# Altium footprint library mypcb.PcbLib: 46 footprints (part 2 of 3)
Each footprint in its own frame and in the unit in brackets; x right, y up, seen from the top. Pads: shape width x height; smd on the part's side, far side on the other; paste and mask are expansions set on the pad; w line width, h text height; cw(c..) or ccw(c..) is an arc to the next point about the centre after c.
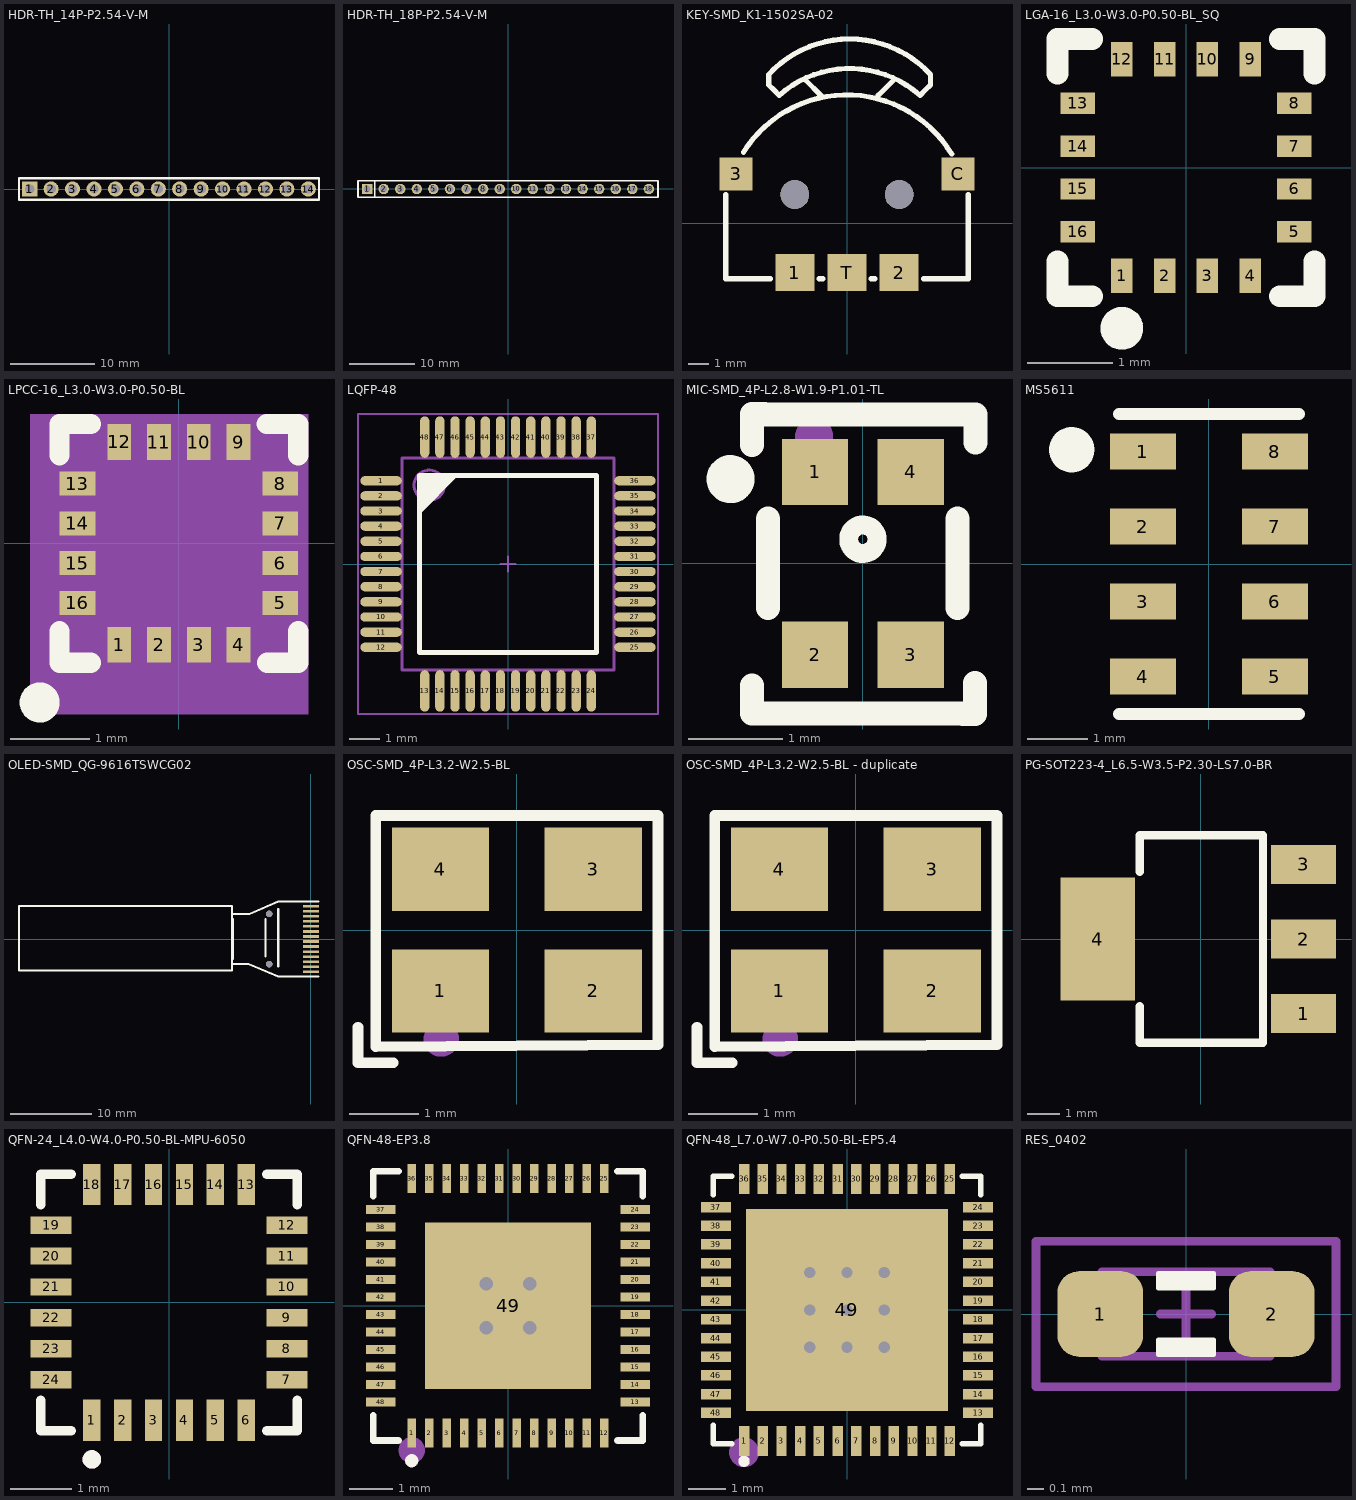
[diagram p1: the footprints below, top view; thin cyan lines are the x and y axes]

## HDR-TH_14P-P2.54-V-M [mm]
pads (14):
  rect 1.8x1.8 hole 1.1: 1(-16.51,0)
  round 1.8 hole 1.1: 2(-13.97,0) 3(-11.43,0) 4(-8.89,0) 5(-6.35,0) 6(-3.81,0) 7(-1.27,0) 8(1.27,0) 9(3.81,0) 10(6.35,0) 11(8.89,0) 12(11.43,0) 13(13.97,0) 14(16.51,0)
Top Overlay:
  lines w0.254: -17.78,-1.27 17.78,-1.27 17.78,1.27 -17.78,1.27 -17.78,-1.27

## HDR-TH_18P-P2.54-V-M [mm]
pads (18):
  rect 1.6x1.6 hole 1.05: 1(-21.59,0)
  round 1.6 hole 1.05: 2(-19.05,0) 3(-16.51,0) 4(-13.97,0) 5(-11.43,0) 6(-8.89,0) 7(-6.35,0) 8(-3.81,0) 9(-1.27,0) 10(1.27,0) 11(3.81,0) 12(6.35,0) 13(8.89,0) 14(11.43,0) 15(13.97,0) 16(16.51,0) 17(19.05,0) 18(21.59,0)
Top Overlay:
  lines w0.254: -20.412,-1.25 -20.412,1.25 ; -22.98,-1.25 22.98,-1.25 22.98,1.25 -22.98,1.25 -22.98,-1.25

## KEY-SMD_K1-1502SA-02 [mm]
pads (7):
  rect 1.9x1.8 smd: 1(-2.54,-2.4) 2(2.54,-2.4) T(0,-2.4)
  rect 1.6x1.6 smd: 3(-5.4,2.4) C(5.4,2.4)
  round 1.4 hole 1.4 unplated: ""(-2.54,1.4) ""(2.54,1.4)
Top Overlay:
  lines w0.254: -5.9,1.4 -5.9,-2.7 -3.721,-2.7 ; -5.04,3.458 cw(c0,0.308) 5.094,3.369 ; -2.032,6.988 -1.27,6.226 ; -1.359,-2.7 -1.181,-2.7 ; 1.181,-2.7 1.359,-2.7 ; 1.524,6.226 2.286,6.988 ; 3.721,-2.7 5.9,-2.7 5.9,1.4 ; -3.81,6.734 -3.556,6.48 -3.302,6.226 cw(c0.127,2.379) 3.556,6.226 3.81,6.48 4.064,6.734 4.064,7.242 ccw(c0.127,3.619) -3.81,7.242 -3.81,6.734

## LGA-16_L3.0-W3.0-P0.50-BL_SQ [mm]
pads (16):
  rect 0.25x0.4 smd: 1(-0.75,-1.263) 2(-0.25,-1.263) 3(0.25,-1.263) 4(0.75,-1.263) 9(0.75,1.263) 10(0.25,1.263) 11(-0.25,1.263) 12(-0.75,1.263)
  rect 0.4x0.25 smd: 5(1.263,-0.75) 6(1.263,-0.25) 7(1.263,0.25) 8(1.263,0.75) 13(-1.263,0.75) 14(-1.263,0.25) 15(-1.263,-0.25) 16(-1.263,-0.75)
Top Overlay:
  lines w0.25: -0.75,-1.75 ccw(c-0.749,-1.875) -0.748,-1.75
  lines w0.254: -1.5,-1.094 -1.5,-1.5 -1.094,-1.5 ; -1.5,1.094 -1.5,1.5 -1.094,1.5 ; 1.094,-1.5 1.5,-1.5 1.5,-1.094 ; 1.094,1.5 1.5,1.5 1.5,1.094

## LPCC-16_L3.0-W3.0-P0.50-BL [mm]
pads (16):
  rect 0.3x0.45 smd: 1(-0.749,-1.275) 2(-0.249,-1.275) 3(0.251,-1.275) 4(0.751,-1.275) 9(0.75,1.275) 10(0.25,1.275) 11(-0.25,1.275) 12(-0.749,1.275)
  rect 0.45x0.3 smd: 5(1.275,-0.748) 6(1.275,-0.248) 7(1.275,0.252) 8(1.275,0.752) 13(-1.275,0.752) 14(-1.275,0.252) 15(-1.275,-0.248) 16(-1.275,-0.748)
Top Overlay:
  circle w0.254: c-1.75,-2 r0.125
  lines w0.254: -1.5,-1.104 -1.5,-1.5 -1.105,-1.5 ; -1.5,1.108 -1.5,1.5 -1.105,1.5 ; 1.106,1.5 1.5,1.5 1.5,1.108 ; 1.108,-1.5 1.5,-1.5 1.5,-1.104
Mechanical 4:
  region: -1.869,1.627 1.627,1.627 1.627,-2.145 -1.869,-2.145
Mechanical 5:
  region: -0.899,-1.05 -0.599,-1.05 -0.599,-1.5 -0.899,-1.5
  region: -0.399,-1.05 -0.099,-1.05 -0.099,-1.5 -0.399,-1.5
  region: 0.101,-1.05 0.401,-1.05 0.401,-1.5 0.101,-1.5
  region: 0.601,-1.05 0.901,-1.05 0.901,-1.5 0.601,-1.5
  region: 1.05,-0.598 1.5,-0.598 1.5,-0.898 1.05,-0.898
  region: 1.05,-0.098 1.5,-0.098 1.5,-0.398 1.05,-0.398
  region: 1.05,0.402 1.5,0.402 1.5,0.102 1.05,0.102
  region: 1.05,0.902 1.5,0.902 1.5,0.602 1.05,0.602
  region: 0.6,1.5 0.9,1.5 0.9,1.05 0.6,1.05
  region: 0.1,1.5 0.4,1.5 0.4,1.05 0.1,1.05
  region: -0.4,1.5 -0.1,1.5 -0.1,1.05 -0.4,1.05
  region: -0.899,1.5 -0.599,1.5 -0.599,1.05 -0.899,1.05
  region: -1.5,0.902 -1.05,0.902 -1.05,0.602 -1.5,0.602
  region: -1.5,0.402 -1.05,0.402 -1.05,0.102 -1.5,0.102
  region: -1.5,-0.098 -1.05,-0.098 -1.05,-0.398 -1.5,-0.398
  region: -1.5,-0.598 -1.05,-0.598 -1.05,-0.898 -1.5,-0.898

## LQFP-48 [mil]
height 62.99
pads (48):
  oval 54x12 smd: 1(-165,108.27) 2(-165,88.58) 3(-165,68.9) 4(-165,49.21) 5(-165,29.53) 6(-165,9.84) 7(-165,-9.84) 8(-165,-29.53) 9(-165,-49.21) 10(-165,-68.9) 11(-165,-88.58) 12(-165,-108.27) 25(165,-108.27) 26(165,-88.58) 27(165,-68.9) 28(165,-49.21) 29(165,-29.53) 30(165,-9.84) 31(165,9.84) 32(165,29.53) 33(165,49.21) 34(165,68.9) 35(165,88.58) 36(165,108.27)
  oval 12x54 smd: 13(-108.27,-165) 14(-88.58,-165) 15(-68.9,-165) 16(-49.21,-165) 17(-29.53,-165) 18(-9.84,-165) 19(9.84,-165) 20(29.53,-165) 21(49.21,-165) 22(68.9,-165) 23(88.58,-165) 24(108.27,-165) 37(108.27,165) 38(88.58,165) 39(68.9,165) 40(49.21,165) 41(29.53,165) 42(9.84,165) 43(-9.84,165) 44(-29.53,165) 45(-49.21,165) 46(-68.9,165) 47(-88.58,165) 48(-108.27,165)
Top Overlay:
  region: -115,115 -65,115 -115,65
  lines w6: -115,-115 -115,115 115,115 115,-115 -115,-115
Mechanical 13:
  circle w3.94: c-102.36,102.36 r19.68
  lines w2: -10,0 10,0 ; 0,-10 0,10
  lines w3.94: -137.8,-137.8 -137.8,137.8 137.8,137.8 137.8,-137.8 -137.8,-137.8
Mechanical 14:
  lines w2: -195,-195 195,-195 195,195 -195,195 -195,-195
3D body "SW3dPS-Quad50M48.STEP": height 61.42, standoff 0, extent -177.16,-177.16 177.17,177.17

## MIC-SMD_4P-L2.8-W1.9-P1.01-TL [mm]
pads (4):
  rect 0.7x0.7 smd: 1(-0.505,0.965) 2(-0.505,-0.965) 3(0.505,-0.965) 4(0.505,0.965)
Top Overlay:
  circle w0.2: c0,0.254 r0.15
  circle w0.254: c-1.397,0.889 r0.127
  lines w0.254: -1.173,-1.29 -1.173,-1.586 1.051,-1.586 ; -1.169,1.252 -1.169,1.577 -1.041,1.577 ; -1.036,1.571 1.188,1.571 1.188,1.275 ; -1,-0.47 -1,0.47 ; 1,-0.47 1,0.47 ; 1.056,-1.592 1.185,-1.592 1.185,-1.267
Mechanical 15:
  circle w0.2: c-0.515,1.34 r0.1

## MS5611 [mm]
height 2.44
pads (8):
  rect 1.1x0.6 smd: 1(-1.1,1.875) 2(-1.1,0.625) 3(-1.1,-0.625) 4(-1.1,-1.875) 5(1.1,-1.875) 6(1.1,-0.625) 7(1.1,0.625) 8(1.1,1.875)
Top Overlay:
  circle w0.5: c-2.286,1.905 r0.127
  lines w0.2: -1.5,-2.5 1.5,-2.5 ; -1.5,2.5 1.5,2.5

## OLED-SMD_QG-9616TSWCG02 [mm]
pads (16):
  rect 2x0.32 smd: 1(0,-4.03) 2(0,-3.41) 3(0,-2.79) 4(0,-2.17) 5(0,-1.55) 6(0,-0.93) 7(0,-0.31) 8(0,0.31) 9(0,0.93) 10(0,1.55) 11(0,2.17) 12(0,2.79) 13(0,3.409) 14(0,4.03)
  round 0.8 hole 0.8 unplated: ""(-5.15,-3.1) ""(-5.15,3.1)
Top Overlay:
  lines w0.254: -9.611,-3.104 -7.7,-3.1 -4.031,-4.654 0.929,-4.654 ; -9.611,-2.484 -9.611,2.476 ; -9.611,3.096 -7.6,3.1 -4.031,4.646 -3.721,4.646 0.929,4.646 ; -5.581,-2.174 -5.581,2.476 ; -4.031,-3.414 -4.031,3.716 ; -36.05,-3.9 -9.75,-3.9 -9.75,4.1 -36.05,4.1 -36.05,-3.9

## OSC-SMD_4P-L3.2-W2.5-BL [mm]
pads (4):
  rect 1.4x1.2 smd: 1(-1.1,-0.875) 2(1.1,-0.875) 3(1.1,0.875) 4(-1.1,0.875)
Top Overlay:
  lines w0.152: -2.286,-1.397 -2.286,-1.905 -1.778,-1.905 ; -2.029,-1.679 -2.029,1.651 2.032,1.651 2.032,0 2.032,-1.651 -2.029,-1.679
Mechanical 15:
  circle w0.254: c-1.088,-1.567 r0.127
  region: -1.486,-0.428 -1.45,-0.428 -1.45,-1.004 -1.486,-1.004
  region: -1.522,-0.428 -1.486,-0.428 -1.486,-1.004 -1.522,-1.004
  region: -1.558,-0.428 -1.522,-0.428 -1.522,-1.004 -1.558,-1.004
  region: -1.594,-0.464 -1.558,-0.464 -1.558,-1.004 -1.594,-1.004
  region: -1.63,-0.464 -1.594,-0.464 -1.594,-0.572 -1.63,-0.572
  region: -1.666,-0.5 -1.63,-0.5 -1.63,-0.608 -1.666,-0.608
  region: -1.702,-0.536 -1.666,-0.536 -1.666,-0.608 -1.702,-0.608
  region: -1.738,-0.536 -1.702,-0.536 -1.702,-0.608 -1.738,-0.608

## OSC-SMD_4P-L3.2-W2.5-BL - duplicate [mm]
pads (4):
  rect 1.4x1.2 smd: 1(-1.1,-0.875) 2(1.1,-0.875) 3(1.1,0.875) 4(-1.1,0.875)
Top Overlay:
  lines w0.152: -2.286,-1.397 -2.286,-1.905 -1.778,-1.905 ; -2.029,-1.679 2.032,-1.651 2.032,0 2.032,1.651 -2.029,1.651 -2.029,-1.679
Mechanical 15:
  circle w0.254: c-1.088,-1.567 r0.127
  region: -1.738,-0.536 -1.702,-0.536 -1.702,-0.608 -1.738,-0.608
  region: -1.702,-0.536 -1.666,-0.536 -1.666,-0.608 -1.702,-0.608
  region: -1.666,-0.5 -1.63,-0.5 -1.63,-0.608 -1.666,-0.608
  region: -1.63,-0.464 -1.594,-0.464 -1.594,-0.572 -1.63,-0.572
  region: -1.594,-0.464 -1.558,-0.464 -1.558,-1.004 -1.594,-1.004
  region: -1.558,-0.428 -1.522,-0.428 -1.522,-1.004 -1.558,-1.004
  region: -1.522,-0.428 -1.486,-0.428 -1.486,-1.004 -1.522,-1.004
  region: -1.486,-0.428 -1.45,-0.428 -1.45,-1.004 -1.486,-1.004

## PG-SOT223-4_L6.5-W3.5-P2.30-LS7.0-BR [mm]
pads (4):
  rect 2x1.2 smd: 1(3.175,-2.3) 2(3.175,0) 3(3.175,2.3)
  rect 2.3x3.8 smd: 4(-3.175,0)
Top Overlay:
  lines w0.254: -1.875,-2.075 -1.875,-3.2 1.925,-3.2 1.925,3.2 -1.875,3.2 -1.875,2.075
Mechanical 15:
  circle w0.254: c3.048,-2.286 r0.127

## QFN-24_L4.0-W4.0-P0.50-BL-MPU-6050 [mm]
pads (24):
  rect 0.28x0.665 smd: 1(-1.25,-1.907) 2(-0.75,-1.907) 3(-0.25,-1.907) 4(0.25,-1.907) 5(0.75,-1.907) 6(1.25,-1.907) 13(1.25,1.907) 14(0.75,1.907) 15(0.25,1.907) 16(-0.25,1.907) 17(-0.75,1.907) 18(-1.25,1.907)
  rect 0.665x0.28 smd: 7(1.907,-1.25) 8(1.907,-0.75) 9(1.907,-0.25) 10(1.907,0.25) 11(1.907,0.75) 12(1.907,1.25) 19(-1.907,1.25) 20(-1.907,0.75) 21(-1.907,0.25) 22(-1.907,-0.25) 23(-1.907,-0.75) 24(-1.907,-1.25)
Top Overlay:
  circle w0.15: c-1.25,-2.54 r0.075
  lines w0.152: -2.076,-1.58 -2.076,-2.076 -1.58,-2.076 ; -2.076,1.58 -2.076,2.076 -1.58,2.076 ; 1.58,-2.076 2.076,-2.076 2.076,-1.58 ; 1.58,2.076 2.076,2.076 2.076,1.58
Mechanical 15:
  circle w0.15: c-1.25,-2.54 r0.075

## QFN-48-EP3.8 [mm]
pads (49):
  rect 0.2x0.665 smd: 1(-2.2,-2.908) 2(-1.8,-2.908) 3(-1.4,-2.908) 4(-1,-2.908) 5(-0.6,-2.908) 6(-0.2,-2.908) 7(0.2,-2.908) 8(0.6,-2.908) 9(1,-2.908) 10(1.4,-2.908) 11(1.8,-2.908) 12(2.2,-2.908) 25(2.2,2.908) 26(1.8,2.908) 27(1.4,2.908) 28(1,2.908) 29(0.6,2.908) 30(0.2,2.908) 31(-0.2,2.908) 32(-0.6,2.908) 33(-1,2.908) 34(-1.4,2.908) 35(-1.8,2.908) 36(-2.2,2.908)
  rect 0.665x0.2 smd: 13(2.908,-2.2) 14(2.908,-1.8) 15(2.908,-1.4) 16(2.908,-1) 17(2.908,-0.6) 18(2.908,-0.2) 19(2.908,0.2) 20(2.908,0.6) 21(2.908,1) 22(2.908,1.4) 23(2.908,1.8) 24(2.908,2.2) 37(-2.908,2.2) 38(-2.908,1.8) 39(-2.908,1.4) 40(-2.908,1) 41(-2.908,0.6) 42(-2.908,0.2) 43(-2.908,-0.2) 44(-2.908,-0.6) 45(-2.908,-1) 46(-2.908,-1.4) 47(-2.908,-1.8) 48(-2.908,-2.2)
  rect 3.8x3.8 smd: 49(0,0)
via 0.5,-0.5 diameter 0.61 hole 0.305
via -0.5,-0.5 diameter 0.61 hole 0.305
via 0.5,0.5 diameter 0.61 hole 0.305
via -0.5,0.5 diameter 0.61 hole 0.305
Top Overlay:
  circle w0.15: c-2.2,-3.54 r0.075
  lines w0.152: -3.076,-2.503 -3.076,-3.076 -2.503,-3.076 ; -3.076,2.503 -3.076,3.076 -2.503,3.076 ; 2.503,-3.076 3.076,-3.076 3.076,-2.503 ; 2.503,3.076 3.076,3.076 3.076,2.503
Mechanical 15:
  circle w0.3: c-2.2,-3.3 r0.15
3D body "ESP32-C3-SOC.STEP": height 1.12, standoff 0, extent -2.5,-2.5 2.5,2.5

## QFN-48_L7.0-W7.0-P0.50-BL-EP5.4 [mm]
pads (49):
  rect 0.28x0.8 smd: 1(-2.75,-3.5) 2(-2.25,-3.5) 3(-1.75,-3.5) 4(-1.25,-3.5) 5(-0.75,-3.5) 6(-0.25,-3.5) 7(0.25,-3.5) 8(0.75,-3.5) 9(1.25,-3.5) 10(1.75,-3.5) 11(2.25,-3.5) 12(2.75,-3.5) 25(2.75,3.5) 26(2.25,3.5) 27(1.75,3.5) 28(1.25,3.5) 29(0.75,3.5) 30(0.25,3.5) 31(-0.25,3.5) 32(-0.75,3.5) 33(-1.25,3.5) 34(-1.75,3.5) 35(-2.25,3.5) 36(-2.75,3.5)
  rect 0.8x0.28 smd: 13(3.5,-2.75) 14(3.5,-2.25) 15(3.5,-1.75) 16(3.5,-1.25) 17(3.5,-0.75) 18(3.5,-0.25) 19(3.5,0.25) 20(3.5,0.75) 21(3.5,1.25) 22(3.5,1.75) 23(3.5,2.25) 24(3.5,2.75) 37(-3.5,2.75) 38(-3.5,2.25) 39(-3.5,1.75) 40(-3.5,1.25) 41(-3.5,0.75) 42(-3.5,0.25) 43(-3.5,-0.25) 44(-3.5,-0.75) 45(-3.5,-1.25) 46(-3.5,-1.75) 47(-3.5,-2.25) 48(-3.5,-2.75)
  rect 5.4x5.4 smd: 49(0,0)
via 0,-1 diameter 0.61 hole 0.305
via 0,1 diameter 0.61 hole 0.305
via -1,1 diameter 0.61 hole 0.305
via 1,1 diameter 0.61 hole 0.305
via 1,0 diameter 0.61 hole 0.305
via -1,-1 diameter 0.61 hole 0.305
via 1,-1 diameter 0.61 hole 0.305
via -1,0 diameter 0.61 hole 0.305
via 0,0 diameter 0.61 hole 0.305
Top Overlay:
  circle w0.15: c-2.75,-4.04 r0.075
  lines w0.152: -3.576,-3.08 -3.576,-3.576 -3.081,-3.576 ; -3.576,3.08 -3.576,3.576 -3.081,3.576 ; 3.08,-3.576 3.576,-3.576 3.576,-3.08 ; 3.08,3.576 3.576,3.576 3.576,3.08
Mechanical 15:
  circle w0.4: c-2.75,-3.8 r0.2

## RES_0402 [mil]
height 13.78
pads (2):
  rrect50% 20x20 smd: 1(-20,0) 2(20,0)
Top Overlay:
  region: 6.5,-9.5 -6.5,-9.5 -6.5,-6 6.5,-6
  region: -6.5,9.5 6.5,9.5 6.5,6 -6.5,6
  lines w1: -6.5,-9.5 6.5,-9.5 6.5,-6 -6.5,-6 -6.5,-9.5 ; -6.5,6 -6.5,9.5 6.5,9.5 6.5,6 -6.5,6
Mechanical 13:
  lines w2: -6,0 6,0 ; 0,-6 0,6 ; -19.69,-9.84 -19.69,9.84 19.68,9.84 19.68,-9.84 -19.69,-9.84
Mechanical 14:
  lines w2: -35,-17 35,-17 35,17 -35,17 -35,-17
3D body "RESC1005X03L.step": height 13.78, standoff 0, extent -19.68,-9.84 19.69,9.85